# EAGLE library part HC-05 (library HC-05)
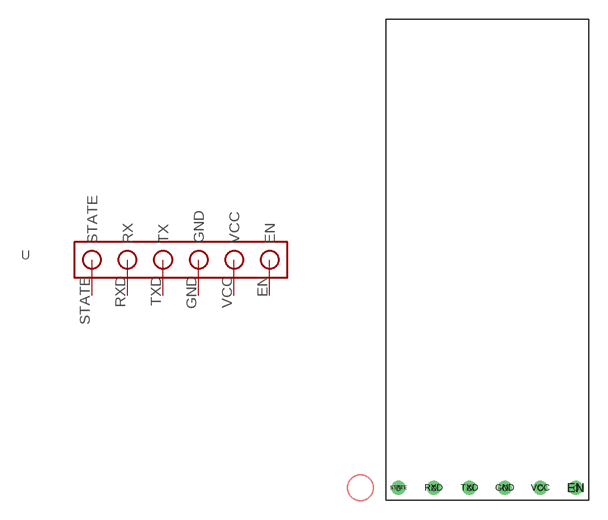
[diagram p0: symbol with the pads of HC05; footprint HC05]

Designator prefix -

## HC-05  [HC05]
EN  EN
GND  GND
RXD  RX
STATE  STATE
TXD  TX
VCC  VCC

## Footprint HC05 (pad centres in mm)
drill 0.6: EN 14,0; GND 8.4,0; RXD 2.8,0; STATE 0,0; TXD 5.6,0; VCC 11.2,0
hole 0.35 at 0,0
hole 0.35 at 2.8,0
hole 0.35 at 5.6,0
hole 0.35 at 11.2,0
hole 0.35 at 14,0
hole 0.35 at 8.4,0